# Altium footprint library usb2uart_ch340.PcbLib: 12 footprints
Each footprint in its own frame and in the unit in brackets; x right, y up, seen from the top. Pads: shape width x height; smd on the part's side, far side on the other; paste and mask are expansions set on the pad; w line width, h text height; cw(c..) or ccw(c..) is an arc to the next point about the centre after c.
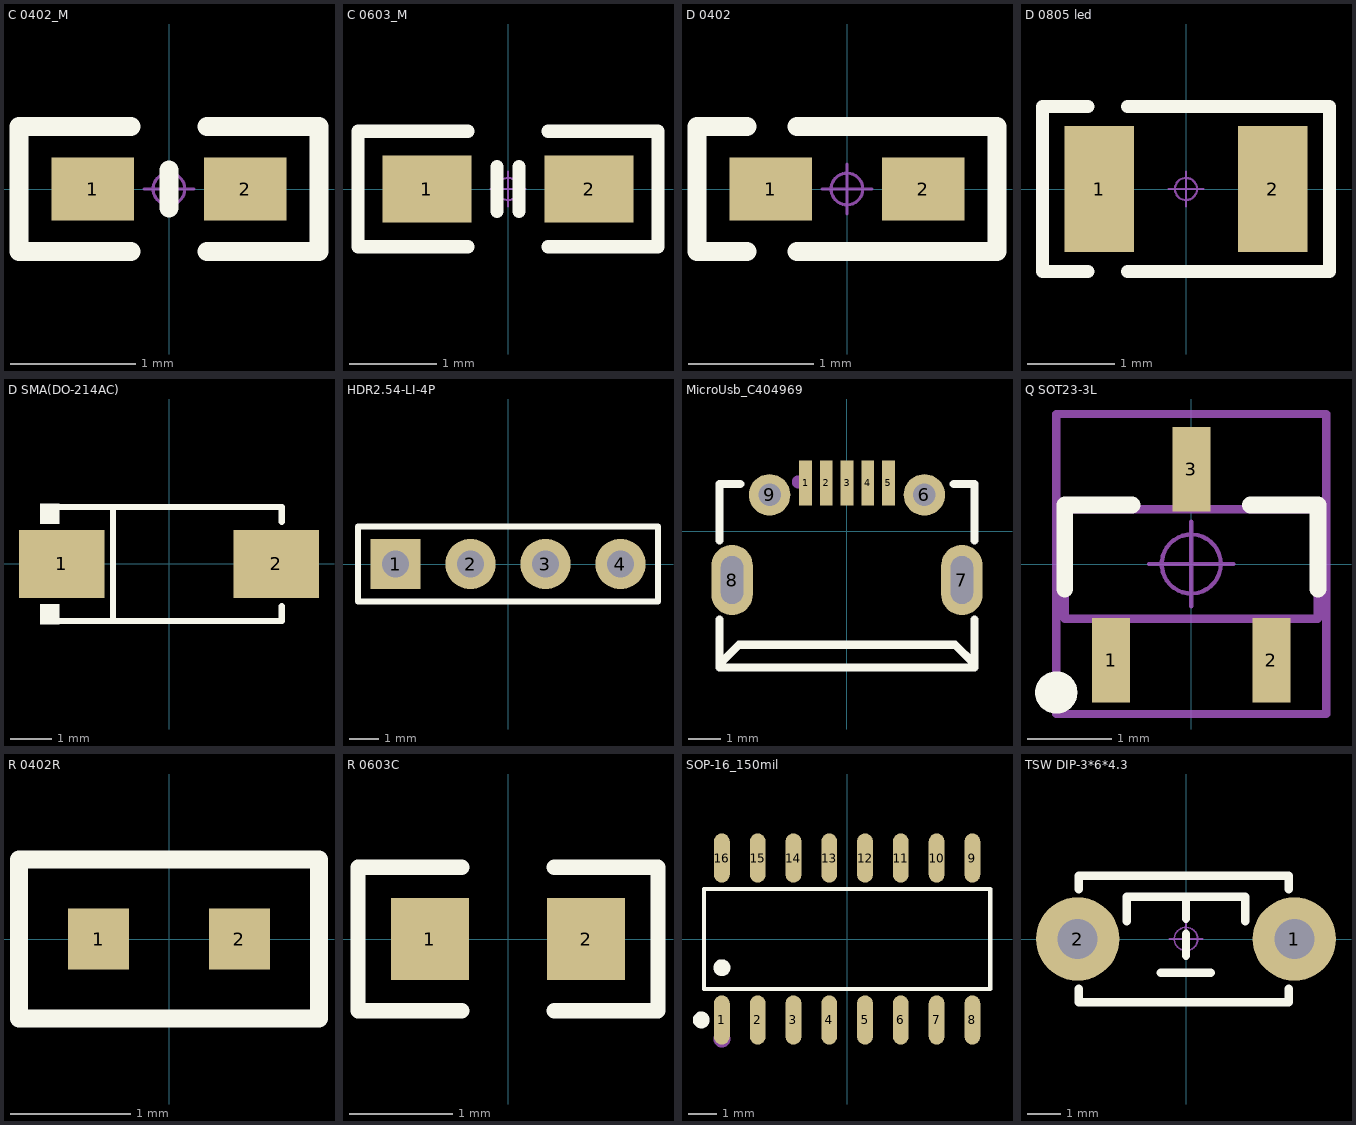
[diagram p0: the footprints below, top view; thin cyan lines are the x and y axes]

## C 0402_M [mil] "无极性贴片电容"
pads (2):
  rect 26x20 smd: 1(-24,0) 2(24,0)
Top Overlay:
  lines w5.91: -12,-19.68 -47.24,-19.68 -47.24,19.68 -12,19.68 ; 0,-6 0,6 ; 12,-19.68 47.24,-19.68 47.24,19.68 12,19.68
Mechanical 15:
  circle w1: c0,0 r5
  lines w1: -7.87,0 7.87,0 ; 0,-7.87 0,7.87
3D body "C 0402.STEP": height 20.68, standoff 0.21, extent -19.68,-10.24 19.68,10.24

## C 0603_M [mil] "无极性贴片电容"
pads (2):
  rect 40x30 smd: 1(-36.5,0) 2(36.5,0)
Top Overlay:
  lines w5.91: -18,-26 -67.5,-26 -67.5,26 -18,26 ; -5,-10 -5,10 ; 5,-10 5,10 ; 18,-26 67.5,-26 67.5,26 18,26
Mechanical 15:
  circle w1: c0,0 r5
  lines w1: -7.87,0 7.87,0 ; 0,-7.87 0,7.87
3D body "C 0603.STEP": height 31.89, standoff -0.39, extent -31.5,-16.14 31.5,16.14

## D 0402 [mil]
pads (2):
  rect 26x20 smd: 1(-24,0) 2(24,0)
Top Overlay:
  lines w6: -31.5,-19.68 -47.24,-19.68 -47.24,19.68 -31.5,19.68 ; -15.75,-19.68 47.24,-19.68 47.24,19.68 -15.75,19.68
Mechanical 15:
  circle w1: c0,0 r5
  lines w1: -7.87,0 7.87,0 ; 0,-7.87 0,7.87
3D body "C 0402.STEP": height 20.68, standoff 0.21, extent -19.68,-10.24 19.68,10.24

## D 0805 led [mm] "area=2x1.25 pin=1.25x0.3"
pads (2):
  rect 0.8x1.45 smd: 1(-1,0) 2(1,0)
Top Overlay:
  lines w0.15: -1.125,-0.95 -1.651,-0.95 -1.651,-0.5 -1.651,0.492 -1.651,0.95 -1.125,0.95 ; -0.675,-0.95 1.651,-0.95 1.651,0.95 -0.675,0.95
Mechanical 15:
  circle w0.025: c0,0 r0.127
  lines w0.025: -0.2,0 0.2,0 ; 0,-0.2 0,0.2
3D body: height 0.45, standoff 0, extent -1.025,-0.625 1,0.625

## D SMA(DO-214AC) [mm]
pads (2):
  rect 2.046x1.62 smd: 1(-2.565,0) 2(2.565,0)
Top Overlay:
  region: -2.625,1.44 -2.625,0.962 -3.082,0.962 -3.082,1.44
  region: -2.625,-1.44 -2.625,-0.962 -3.082,-0.962 -3.082,-1.44
  lines w0.152: -2.701,-1.364 2.701,-1.364 2.701,-1.013 ; -2.701,1.364 2.701,1.364 2.701,1.013 ; -1.339,-1.364 -1.339,1.364
Mechanical 15:
  region: -2.432,-0.097 -2.432,0.097 -1.659,0.097 -1.659,-0.097
  region: 2.432,-0.097 2.432,0.097 1.659,0.097 1.659,-0.097
  region: 2.142,-0.644 2.142,0.644 1.949,0.644 1.949,-0.644
3D body "SW3dPS-DO-214AC SMA.STEP": height 2.4, standoff 0, extent -2.563,-1.33 2.637,1.27

## HDR2.54-LI-4P [mm] "排针，4脚"
pads (4):
  rect 1.7x1.7 hole 0.9: 1(-3.81,0)
  round 1.7 hole 0.9: 2(-1.27,0) 3(1.27,0) 4(3.81,0)
Top Overlay:
  lines w0.2: -5.08,-1.27 5.08,-1.27 5.08,1.27 -5.08,1.27 -5.08,-1.27
3D body "HDR2.54-1P.STEP": height 8.5, standoff -3, extent 2.54,-1.27 5.08,1.27
3D body "HDR2.54-1P.STEP": height 8.5, standoff -3, extent 0,-1.27 2.54,1.27
3D body "HDR2.54-1P.STEP": height 8.5, standoff -3, extent -2.54,-1.27 0,1.27
3D body "HDR2.54-1P.STEP": height 8.5, standoff -3, extent -5.08,-1.27 -2.54,1.27

## MicroUsb_C404969 [mm]
pads (9):
  rect 0.4x1.4 smd: 1(-1.3,1.521) 2(-0.65,1.521) 3(0,1.521) 4(0.65,1.521) 5(1.3,1.521)
  round 1.3 hole 0.7: 6(2.425,1.149) 9(-2.425,1.149)
  oval 1.3x2.2 hole 0.7 slot 1.5 at 90 deg: 7(3.6,-1.521) 8(-3.6,-1.521)
Top Overlay:
  lines w0.254: -4,-4.259 4,-4.259 4,-2.756 ; -4,-4.239 -4,-2.756 ; -4,-0.287 -4,1.491 -3.344,1.491 ; -3.97,-4.239 -3.97,-4.139 -3.38,-3.549 3.39,-3.549 3.98,-4.139 3.98,-4.259 ; 3.344,1.491 4,1.491 4,-0.287
Top Paste:
  circle w0.65: c-2.425,1.149 r0.325
  circle w0.65: c2.425,1.149 r0.325
  region: 2.95,-1.071 2.95,-0.986 2.994,-0.82 3.08,-0.672 3.201,-0.551 3.349,-0.466 3.514,-0.421 3.686,-0.421 3.851,-0.466 3.999,-0.551 4.12,-0.672 4.206,-0.82 4.25,-0.986 4.25,-1.071 4.25,-1.971 4.25,-2.057 4.206,-2.222 4.12,-2.37 3.999,-2.491 3.851,-2.577 3.686,-2.621 3.514,-2.621 3.349,-2.577 3.201,-2.491 3.08,-2.37 2.994,-2.222 2.95,-2.057 2.95,-1.971
  region: -4.25,-1.071 -4.25,-0.986 -4.206,-0.82 -4.12,-0.672 -3.999,-0.551 -3.851,-0.466 -3.685,-0.421 -3.514,-0.421 -3.349,-0.466 -3.201,-0.551 -3.08,-0.672 -2.994,-0.82 -2.95,-0.986 -2.95,-1.071 -2.95,-1.971 -2.95,-2.057 -2.994,-2.222 -3.08,-2.37 -3.201,-2.491 -3.349,-2.577 -3.514,-2.621 -3.685,-2.621 -3.851,-2.577 -3.999,-2.491 -4.12,-2.37 -4.206,-2.222 -4.25,-2.057 -4.25,-1.971
  region: 1.5,2.221 1.1,2.221 1.1,1.021 1.1,0.821 1.5,0.821 1.5,1.058
  region: 0.85,2.221 0.45,2.221 0.45,1.021 0.45,0.821 0.85,0.821 0.85,1.058
  region: 0.2,2.221 -0.2,2.221 -0.2,1.021 -0.2,0.821 0.2,0.821 0.2,1.058
  region: -0.45,2.221 -0.85,2.221 -0.85,1.021 -0.85,0.821 -0.45,0.821 -0.45,1.058
  region: -1.1,2.221 -1.5,2.221 -1.5,1.021 -1.5,0.821 -1.1,0.821 -1.1,1.058
Mechanical 15:
  circle w0.2: c-1.53,1.554 r0.1

## Q SOT23-3L [mm] "3x1.3x1mm(长宽高)"
height 1.1
pads (3):
  rect 0.45x1 smd: 1(-0.95,-1.143) 2(0.95,-1.143) 3(0,1.125)
Top Overlay:
  circle w0.25: c-1.6,-1.524 r0.125
  lines w0.2: -1.5,-0.3 -1.5,0.7 -0.7,0.7 ; 0.7,0.7 1.5,0.7 1.5,-0.3
Mechanical 13:
  lines w0.1: -1.5,-0.65 -1.5,0.65 1.5,0.65 1.5,-0.65 -1.5,-0.65
Mechanical 15:
  circle w0.05: c0,0 r0.35
  lines w0.05: -0.5,0 0.5,0 ; 0,-0.5 0,0.5
  lines w0.1: -1.6,-1.778 -1.6,1.778 1.6,1.778 1.6,-1.778 -1.6,-1.778
3D body "SOT23-3.STEP": height 1.05, standoff 0, extent -1.5,-1.2 1.5,1.2

## R 0402R [mil]
pads (2):
  rect 20x20 smd: 1(-23,0) 2(23,0)
Top Overlay:
  lines w5.91: -49,-26 -49,26 15,26 49,26 49,-26 15,-26 -49,-26
3D body "R0402.STEP": height 13.78, standoff 0, extent -19.68,-9.84 19.69,9.85

## R 0603C [mm]
pads (2):
  rect 0.76x0.8 smd: 1(-0.76,0) 2(0.76,0)
Top Overlay:
  lines w0.15: -0.45,-0.7 -1.46,-0.7 -1.46,0.7 -0.45,0.7 ; 0.45,-0.7 1.46,-0.7 1.46,0.7 0.45,0.7
3D body "RES0603.STEP": height 0.45, standoff 0, extent -0.8,-0.4 0.8,0.42

## SOP-16_150mil [mm]
pads (16):
  oval 0.56x1.745 smd: 1(-4.445,-2.873) 2(-3.175,-2.873) 3(-1.905,-2.873) 4(-0.635,-2.873) 5(0.635,-2.873) 6(1.905,-2.873) 7(3.175,-2.873) 8(4.445,-2.873) 9(4.445,2.873) 10(3.175,2.873) 11(1.905,2.873) 12(0.635,2.873) 13(-0.635,2.873) 14(-1.905,2.873) 15(-3.175,2.873) 16(-4.445,2.873)
Top Overlay:
  circle w0.3: c-5.177,-2.872 r0.15
  circle w0.3: c-4.445,-1.019 r0.15
  lines w0.152: -5.076,-1.771 5.076,-1.771 5.076,1.771 -5.076,1.771 -5.076,-1.771
Mechanical 15:
  circle w0.3: c-4.445,-3.55 r0.15
3D body "SOP-16.STEP": height 1.5, standoff -0.1, extent -5,-3.107 5,3.157

## TSW DIP-3*6*4.3 [mm] "3*6*4.3mm"
pads (2):
  round 2.5 hole 1.2: 1(3.25,0) 2(-3.25,0)
Top Overlay:
  lines w0.254: -3.212,-1.499 -3.212,-1.9 3.088,-1.9 3.088,-1.499 ; -3.212,1.499 -3.212,1.9 3.088,1.9 3.088,1.499 ; -1.778,0.533 -1.778,1.27 1.778,1.27 1.778,0.533 ; -0.762,-1.016 0.737,-1.016 ; 0,-0.508 0,0.152 ; 0,0.61 0,1.27
Mechanical 15:
  circle w0.05: c0,0 r0.35
  lines w0.05: -0.5,0 0.5,0 ; 0,-0.5 0,0.5
3D body "TSW DIP-3x6x4.3.STEP": height 4.31, standoff -3.49, extent -3.914,-1.75 3.914,1.75